# EAGLE library part 87758-14_S (library con-molex-milli-grid)
HEADER
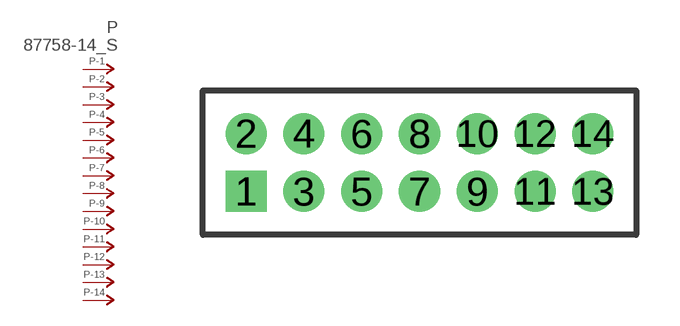
[diagram p339: symbol with the pads of 87758-14; footprint 87758-14]

Designator prefix P; gates -1=P-NV -2=P-N -3=P-N -4=P-N -5=P-N -6=P-N -7=P-N -8=P-N -9=P-N -10=P-N -11=P-N -12=P-N -13=P-N -14=P-N

## 87758-14_S  [87758-14]
1  -1:P  pas
2  -2:P  pas
3  -3:P  pas
4  -4:P  pas
5  -5:P  pas
6  -6:P  pas
7  -7:P  pas
8  -8:P  pas
9  -9:P  pas
10  -10:P  pas
11  -11:P  pas
12  -12:P  pas
13  -13:P  pas
14  -14:P  pas

## Footprint 87758-14 (pad centres in mm)
HEADER Dual Row, Vertical
drill 0.914 square: 1 -6,-1
drill 0.914: 2 -6,1; 3 -4,-1; 4 -4,1; 5 -2,-1; 6 -2,1; 7 0,-1; 8 0,1; 9 2,-1; 10 2,1; 11 4,-1; 12 4,1; 13 6,-1; 14 6,1